# Altium footprint library PESD24VS1ULQZ.PcbLib: 1 footprints
Each footprint in its own frame and in the unit in brackets; x right, y up, seen from the top. Pads: shape width x height; smd on the part's side, far side on the other; paste and mask are expansions set on the pad; w line width, h text height; cw(c..) or ccw(c..) is an arc to the next point about the centre after c.
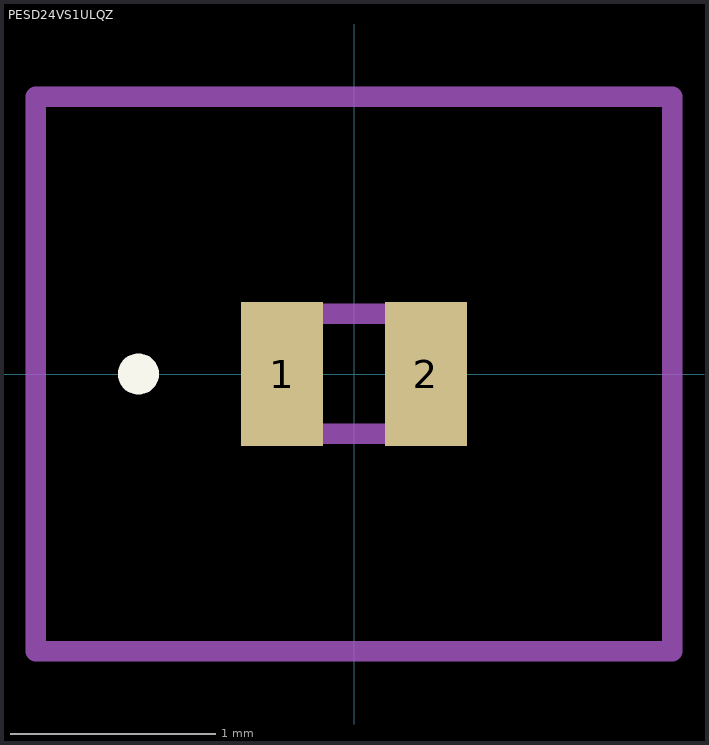
[diagram p0: the footprint, top view; thin cyan lines are the x and y axes]

## PESD24VS1ULQZ [mm]
pads (2):
  rect 0.4x0.7 smd: 1(-0.35,0) 2(0.35,0)
Top Overlay:
  lines w0.1: -1.1,0 cw(c-1.05,0) -1,0 ; -1.1,0 -1.1,0 ; -1.1,0 ccw(c-1.05,0) -1,0 ; -1,0 -1,0
Mechanical 15:
  lines w0.1: -0.492,-0.292 0.492,-0.292 0.492,0.293 -0.492,0.293 -0.492,-0.292
Mechanical 20:
  lines w0.1: -1.55,-1.35 1.55,-1.35 1.55,1.35 -1.55,1.35 -1.55,-1.35